# Altium schematic symbol library AltiumGost.SchLib: 49 symbols
Pins are listed as number, name and electrical type; pins without a type are passive.

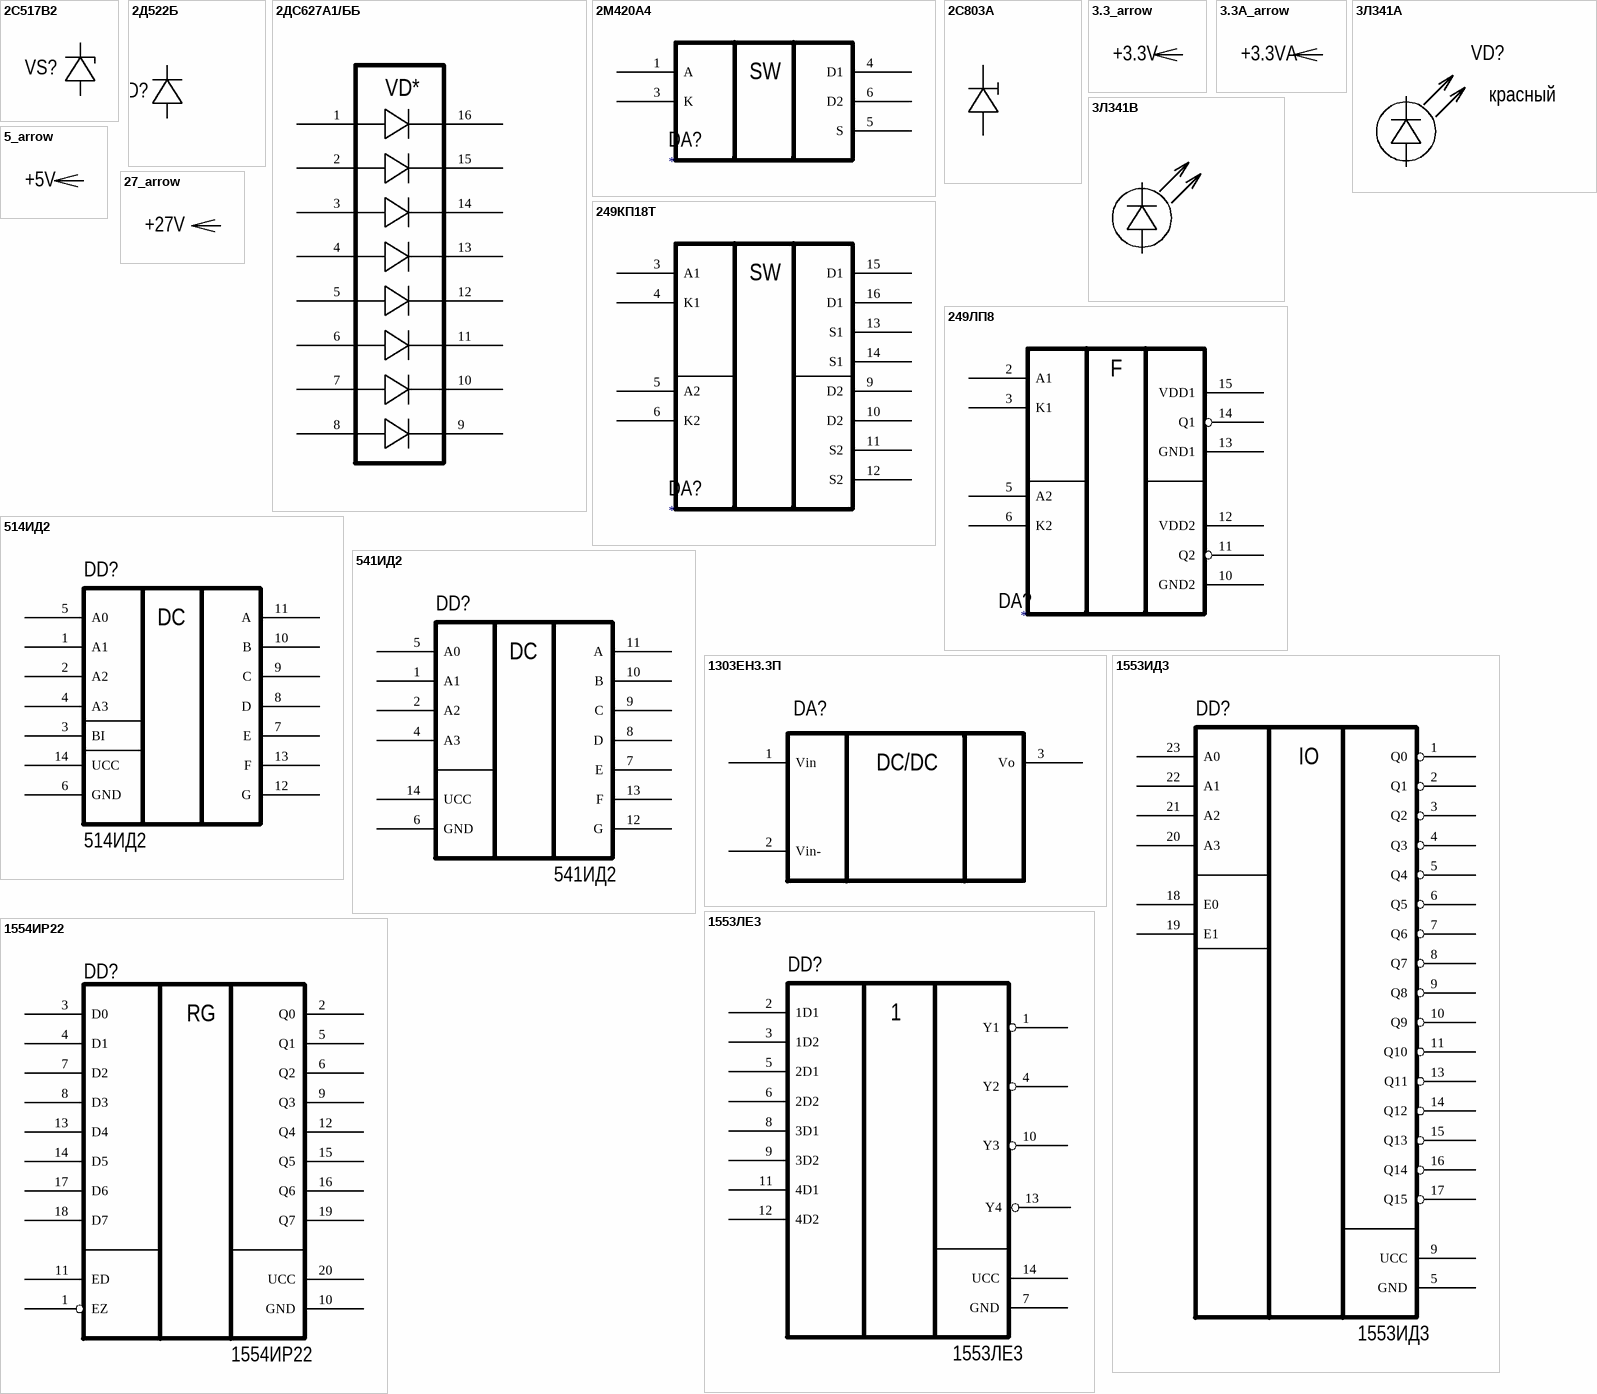
[diagram p0: symbols 2C517B2 to 1554ИР22]

## 2C517B2
designator VS?  (value not drawn)
pins: 1, 2

## 2Д522Б
designator VD?
дР3.362.029-01ТУ
pins: 1, 2

## 2ДС627А1/ББ
designator VD?
АЕЯР.432120.515 ТУ
pins: 1, 2, 3, 4, 5, 6, 7, 8, 9, 10, 11, 12, 13, 14, 15, 16
text: VD*

## 2М420А4
designator DA?
АЕЯР.432170.564ТУ
pins: 1 A, 3 K, 4 D1, 5 S, 6 D2
text: SW

## 2С803А
designator VD?
аА0.339.380ТУ
pins: 1, 2

## 3.3_arrow
designator ?  (value not drawn)  (graphical)
text: +3.3V

## 3.3A_arrow
designator ?  (value not drawn)  (graphical)
text: +3.3VA

## 3Л341А
designator VD?, comment красный
аА0.339.189ТУ
pins: 1, 2

## 3Л341В
designator VD?, comment зеленый
аА0.339.189ТУ
pins: 1, 2

## 5_arrow
designator ?  (value not drawn)  (graphical)
text: +5V

## 27_arrow
designator ?  (value not drawn)  (graphical)
text: +27V

## 249КП18Т
designator DA?
АЕЯР.431160.820ТУ
pins: 3 A1, 4 K1, 5 A2, 6 K2, 9 D2, 10 D2, 11 S2, 12 S2, 13 S1, 14 S1, 15 D1, 16 D1
text: SW

## 249ЛП8
designator DA?
АДБК.431270.030ТУ
pins: 2 A1, 3 K1, 5 A2, 6 K2, 10 GND2, 11 Q2, 12 VDD2, 13 GND1, 14 Q1, 15 VDD1
text: F

## 514ИД2
designator DD?
pins: 1 A1, 2 A2, 3 BI, 4 A3, 5 A0, 6 GND, 7 E, 8 D, 9 C, 10 B, 11 A, 12 G, 13 F, 14 UCC
text: DC

## 541ИД2
designator DD?
pins: 1 A1, 2 A2, 4 A3, 5 A0, 6 GND, 7 E, 8 D, 9 C, 10 B, 11 A, 12 G, 13 F, 14 UCC
text: DC

## 1303ЕН3.3П
designator DA?  (value not drawn)
pins: 1 Vin, 2 Vin-, 3 Vo
text: DC/DC

## 1553ИД3
designator DD?
pins: 1 Q0, 2 Q1, 3 Q2, 4 Q3, 5 GND, 5 Q4, 6 Q5, 7 Q6, 8 Q7, 9 UCC, 9 Q8, 10 Q9, 11 Q10, 13 Q11, 14 Q12, 15 Q13, 16 Q14, 17 Q15, 18 E0, 19 E1, 20 A3, 21 A2, 22 A1, 23 A0
text: IO

## 1553ЛЕ3
designator DD?
pins: 1 Y1, 2 1D1, 3 1D2, 4 Y2, 5 2D1, 6 2D2, 7 GND, 8 3D1, 9 3D2, 10 Y3, 11 4D1, 12 4D2, 13 Y4, 14 UCC

## 1554ИР22
designator DD?
pins: 1 EZ, 2 Q0, 3 D0, 4 D1, 5 Q1, 6 Q2, 7 D2, 8 D3, 9 Q3, 10 GND, 11 ED, 12 Q4, 13 D4, 14 D5, 15 Q5, 16 Q6, 17 D6, 18 D7, 19 Q7, 20 UCC
text: RG

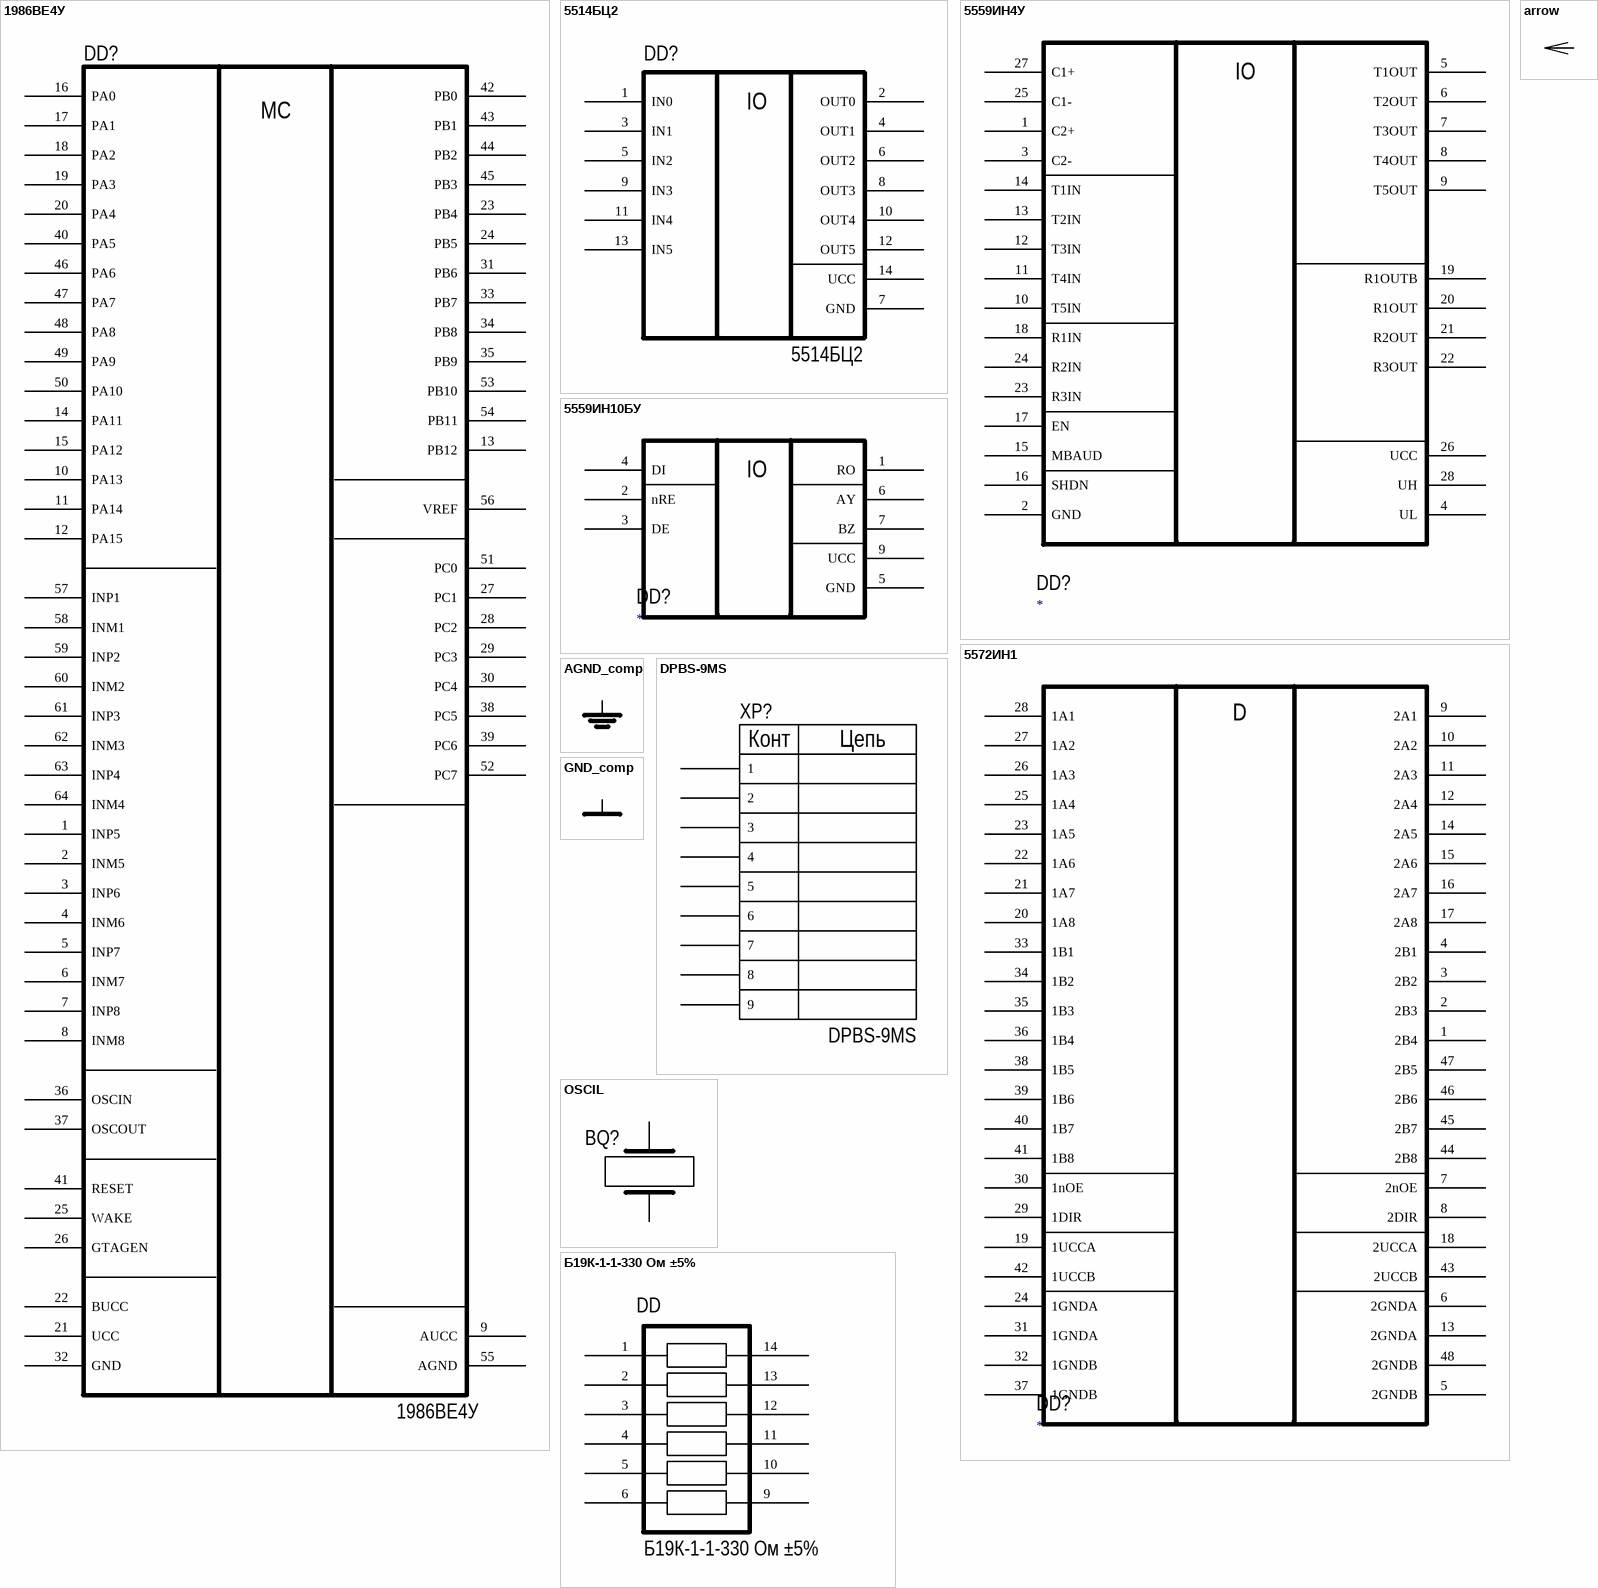
[diagram p1: symbols 1986ВЕ4У to Б19К-1-1-330 Ом ±5%]

## 1986ВЕ4У
designator DD?
pins: 1 INP5, 2 INM5, 3 INP6, 4 INM6, 5 INP7, 6 INM7, 7 INP8, 8 INM8, 9 AUCC, 10 PA13, 11 PA14, 12 PA15, 13 PB12, 14 PA11, 15 PA12, 16 PA0, 17 PA1, 18 PA2, 19 PA3, 20 PA4, 21 UCC, 22 BUCC, 23 PB4, 24 PB5, 25 WAKE, 26 GTAGEN, 27 PC1, 28 PC2, 29 PC3, 30 PC4, 31 PB6, 32 GND, 33 PB7, 34 PB8, 35 PB9, 36 OSCIN, 37 OSCOUT, 38 PC5, 39 PC6, 40 PA5, 41 RESET, 42 PB0, 43 PB1, 44 PB2, 45 PB3, 46 PA6, 47 PA7, 48 PA8, 49 PA9, 50 PA10, 51 PC0, 52 PC7, 53 PB10, 54 PB11, 55 AGND, 56 VREF, 57 INP1, 58 INM1, 59 INP2, 60 INM2, 61 INP3, 62 INM3, 63 INP4, 64 INM4
text: MC

## 5514БЦ2
designator DD?
pins: 1 IN0, 2 OUT0, 3 IN1, 4 OUT1, 5 IN2, 6 OUT2, 7 GND, 8 OUT3, 9 IN3, 10 OUT4, 11 IN4, 12 OUT5, 13 IN5, 14 UCC
text: IO

## 5559ИН4У
designator DD?
АЕЯР.431230.460ТУ
pins: 1 C2+, 2 GND, 3 C2-, 4 UL, 5 T1OUT, 6 T2OUT, 7 T3OUT, 8 T4OUT, 9 T5OUT, 10 T5IN, 11 T4IN, 12 T3IN, 13 T2IN, 14 T1IN, 15 MBAUD, 16 SHDN, 17 EN, 18 R1IN, 19 R1OUTB, 20 R1OUT, 21 R2OUT, 22 R3OUT, 23 R3IN, 24 R2IN, 25 C1-, 26 UCC, 27 C1+, 28 UH
text: IO

## 5559ИН10БУ
designator DD?
АЕЯР.431230.645ТУ
pins: 1 RO, 2 nRE, 3 DE, 4 DI, 5 GND, 6 AY, 7 BZ, 9 UCC
text: IO

## 5572ИН1
designator DD?
АЕЯР.431230.913ТУ
pins: 1 2В4, 2 2В3, 3 2В2, 4 2В1, 5 2GNDB, 6 2GNDA, 7 2nOE, 8 2DIR, 9 2A1, 10 2A2, 11 2A3, 12 2A4, 13 2GNDA, 14 2A5, 15 2A6, 16 2A7, 17 2A8, 18 2UCCA, 19 1UCCA, 20 1A8, 21 1A7, 22 1A6, 23 1A5, 24 1GNDA, 25 1A4, 26 1A3, 27 1A2, 28 1A1, 29 1DIR, 30 1nOE, 31 1GNDA, 32 1GNDB, 33 1B1, 34 1B2, 35 1B3, 36 1B4, 37 1GNDB, 38 1B5, 39 1B6, 40 1B7, 41 1B8, 42 1UCCB, 43 2UCCB, 44 2B8, 45 2B7, 46 2B6, 47 2B5, 48 2GNDB
text: D

## AGND_comp
designator ?  (value not drawn)  (graphical)

## arrow
designator ?  (value not drawn)  (graphical)

## DPBS-9MS
designator XP?
pins: 1, 2, 3, 4, 5, 6, 7, 8, 9
text: Конт; Цепь

## GND_comp
designator ?  (value not drawn)  (graphical)

## OSCIL
designator BQ?  (value not drawn)
pins: 1, 2

## Б19К-1-1-330 Ом ±5%
designator DD
ОЖ0.206.018ТУ
pins: 1, 2, 3, 4, 5, 6, 9, 10, 11, 12, 13, 14

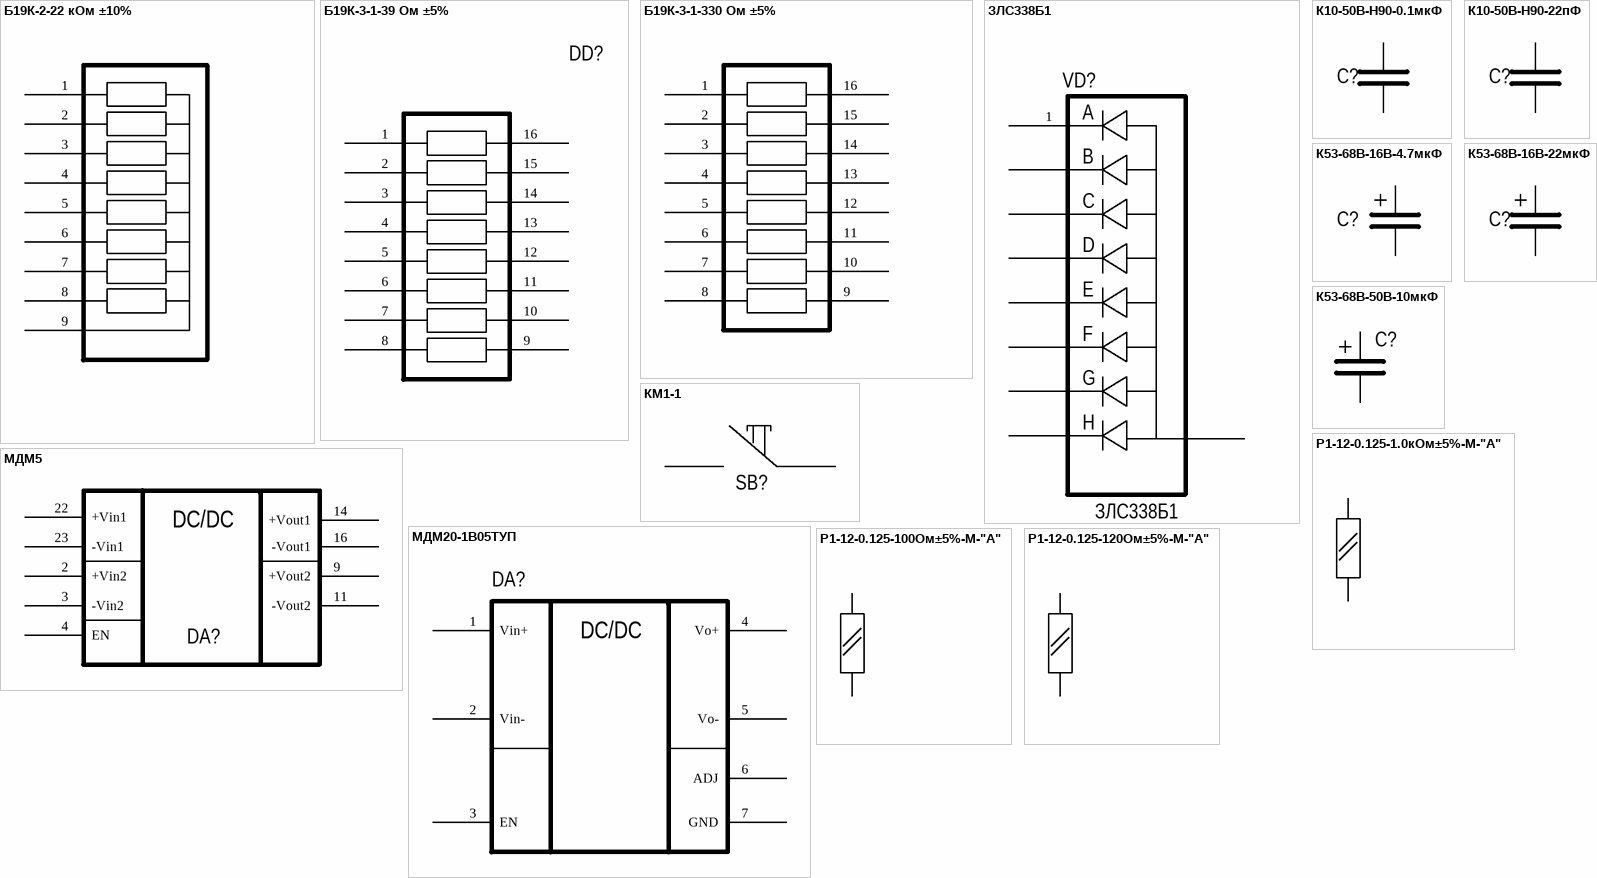
[diagram p2: symbols Б19К-2-22 кОм ±10% to Р1-12-0.125-120Ом±5%-М-"А"]

## Б19К-2-22 кОм ±10%
designator DD?  (value not drawn)
ОЖ0.206.018ТУ
pins: 1, 2, 3, 4, 5, 6, 7, 8, 9

## Б19К-3-1-39 Ом ±5%
designator DD?  (value not drawn)
ОЖ0.206.018ТУ
pins: 1, 2, 3, 4, 5, 6, 7, 8, 9, 10, 11, 12, 13, 14, 15, 16

## Б19К-3-1-330 Ом ±5%
designator DD?  (value not drawn)
ОЖ0.206.018ТУ
pins: 1, 2, 3, 4, 5, 6, 7, 8, 9, 10, 11, 12, 13, 14, 15, 16

## ЗЛС338Б1
designator VD?
pins: 1 A, ?1 A, ?2 B, ?3 C, ?4 D, ?5 E, ?6 F, ?7 G, ?8 H

## К10-50В-Н90-0.1мкФ
designator C?  (value not drawn)
pins: 1, 2

## К10-50В-Н90-22пФ
designator C?, comment К10-50В-Н90-22 пФ  (value not drawn)
pins: 1, 2

## К53-68В-16В-4.7мкФ
designator C?  (value not drawn)
pins: 1, 2

## К53-68В-16В-22мкФ
designator C?  (value not drawn)
pins: 1, 2

## К53-68В-50В-10мкФ
designator C?  (value not drawn)
pins: 1, 2

## КМ1-1
designator SB?  (value not drawn)
pins: 0, 1

## МДМ5
designator DA?, comment МДМ5-2В0505ТП  (value not drawn)
pins: 2 +Vin2, 3 -Vin2, 4 EN, 9 +Vout2, 11 -Vout2, 14 +Vout1, 16 -Vout1, 22 +Vin1, 23 -Vin1
text: DC/DC

## МДМ20-1В05ТУП
designator DA?  (value not drawn)
pins: 1 Vin+, 2 Vin-, 3 EN, 4 Vo+, 5 Vo-, 6 ADJ, 7 GND
text: DC/DC

## Р1-12-0.125-1.0кОм±5%-М-"А"
designator R?
АЛЯР.434110.005ТУ
pins: 1, 2

## Р1-12-0.125-100Ом±5%-М-"А"
designator R?
АЛЯР.434110.005ТУ
pins: 1, 2

## Р1-12-0.125-120Ом±5%-М-"А"
designator R?
АЛЯР.434110.005ТУ
pins: 1, 2

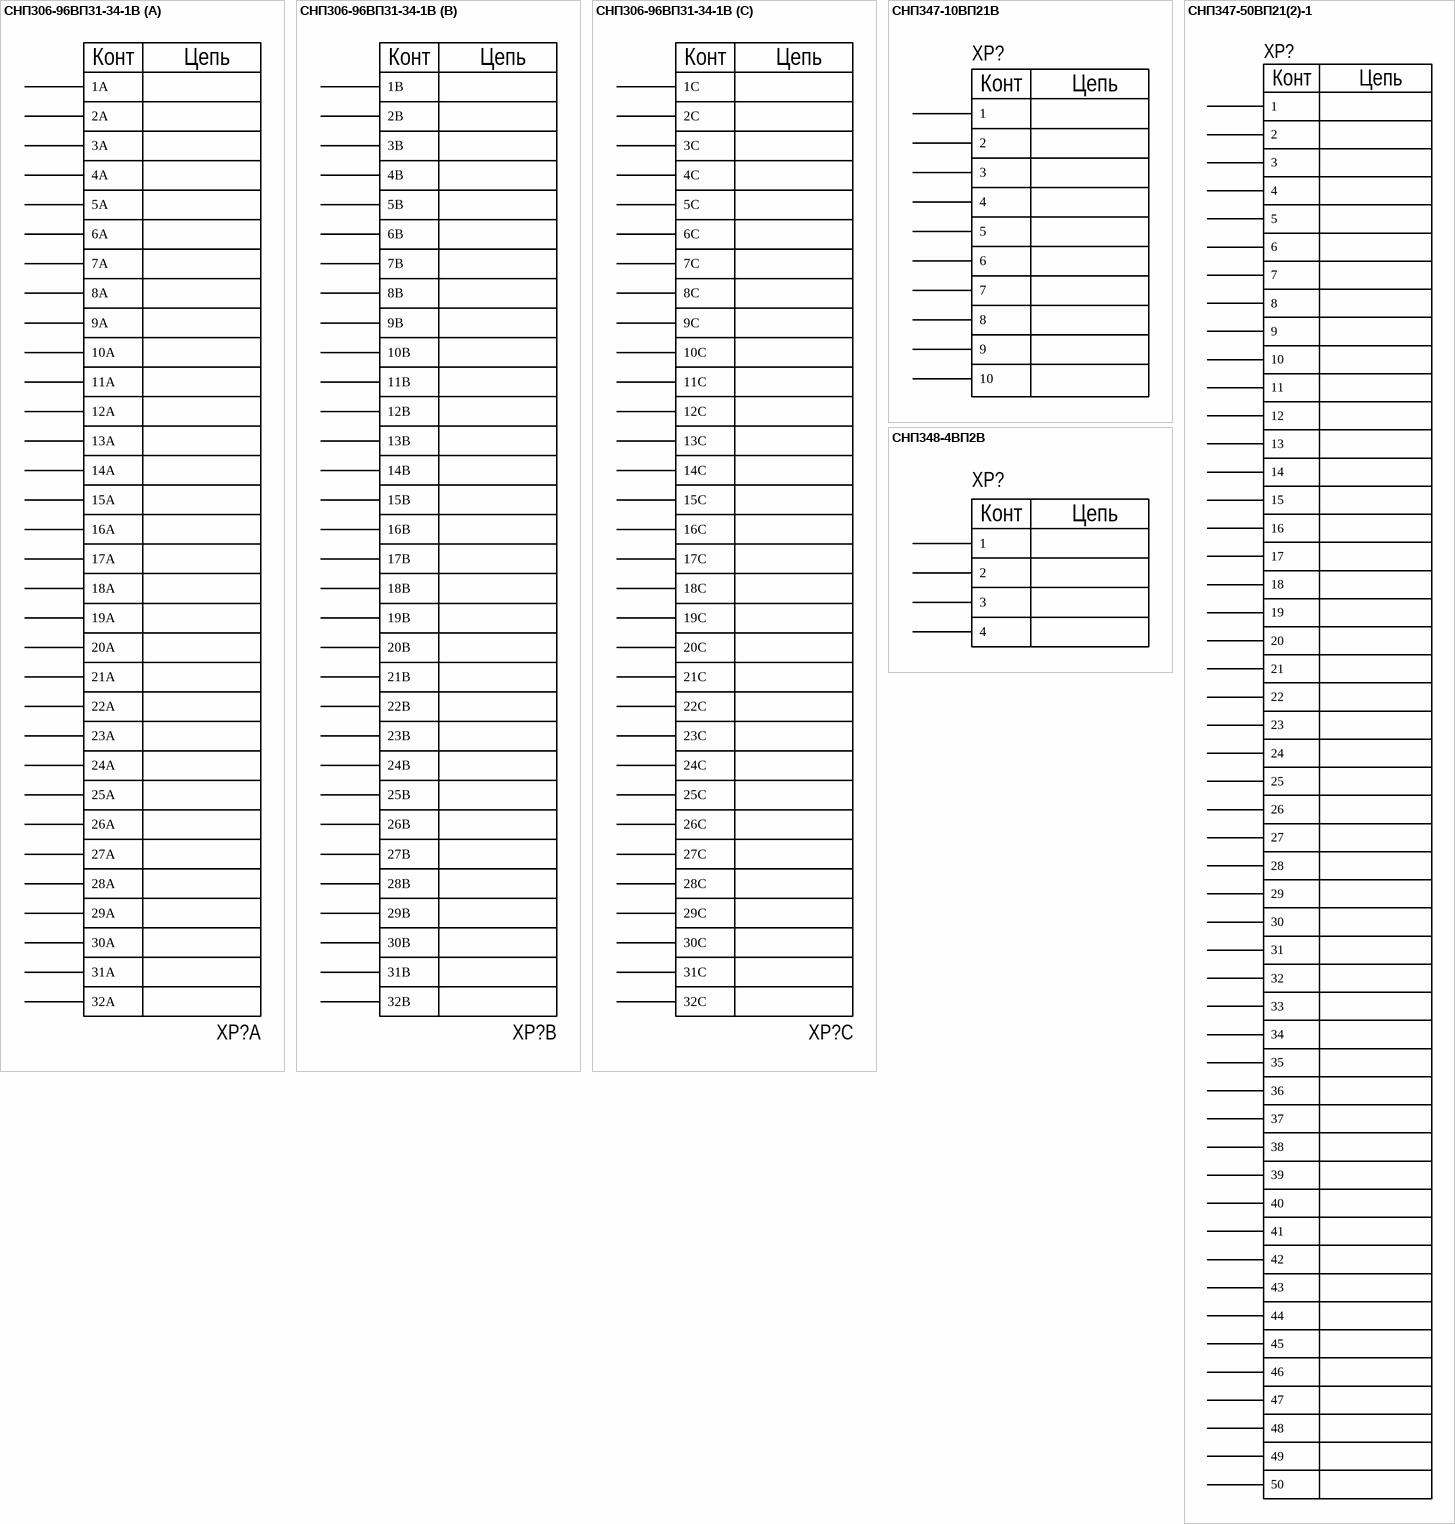
[diagram p3: symbols СНП306-96ВП31-34-1В to СНП348-4ВП2В]

## СНП306-96ВП31-34-1В
designator XP?  (value not drawn)
РЮМК.430420.007 ТУ
part A pins: 1 1A, 2 2A, 3 3A, 4 4A, 5 5A, 6 6A, 7 7A, 8 8A, 9 9A, 10 10A, 11 11A, 12 12A, 13 13A, 14 14A, 15 15A, 16 16A, 17 17A, 18 18A, 19 19A, 20 20A, 21 21A, 22 22A, 23 23A, 24 24A, 25 25A, 26 26A, 27 27A, 28 28A, 29 29A, 30 30A, 31 31A, 32 32A
part B pins: 1 1B, 2 2B, 3 3B, 4 4B, 5 5B, 6 6B, 7 7B, 8 8B, 9 9B, 10 10B, 11 11B, 12 12B, 13 13B, 14 14B, 15 15B, 16 16B, 17 17B, 18 18B, 19 19B, 20 20B, 21 21B, 22 22B, 23 23B, 24 24B, 25 25B, 26 26B, 27 27B, 28 28B, 29 29B, 30 30B, 31 31B, 32 32B
part C pins: 1 1C, 2 2C, 3 3C, 4 4C, 5 5C, 6 6C, 7 7C, 8 8C, 9 9C, 10 10C, 11 11C, 12 12C, 13 13C, 14 14C, 15 15C, 16 16C, 17 17C, 18 18C, 19 19C, 20 20C, 21 21C, 22 22C, 23 23C, 24 24C, 25 25C, 26 26C, 27 27C, 28 28C, 29 29C, 30 30C, 31 31C, 32 32C
part A text: Конт; Цепь
part B text: Конт; Цепь
part C text: Конт; Цепь

## СНП347-10ВП21В
designator XP?  (value not drawn)
pins: 1, 2, 3, 4, 5, 6, 7, 8, 9, 10
text: Конт; Цепь

## СНП347-50ВП21(2)-1
designator XP?  (value not drawn)
pins: 1, 2, 3, 4, 5, 6, 7, 8, 9, 10, 11, 12, 13, 14, 15, 16, 17, 18, 19, 20, 21, 22, 23, 24, 25, 26, 27, 28, 29, 30, 31, 32, 33, 34, 35, 36, 37, 38, 39, 40, 41, 42, 43, 44, 45, 46, 47, 48, 49, 50
text: Конт; Цепь

## СНП348-4ВП2В
designator XP?  (value not drawn)
pins: 1, 2, 3, 4
text: Конт; Цепь